# EAGLE library part DRV8234RTER (library DRV8234RTER)
Motor / Motion / Ignition Controllers & Drivers SINGLE H-BRIDGE MOTOR DRIVER Source: Datasheet <https://www.ti.com/lit/ds/symlink/drv8234.pdf?ts=1704472523164&ref_url=https%3A%2F%2Fwww.ti.com%2Fsitesearch%2Fen-us%2Fdocs%2Funiversalsearch.tsp%3FlangPref%3Den-US%26searchTerm%3DDRV8234RTER%26nr%3D2>
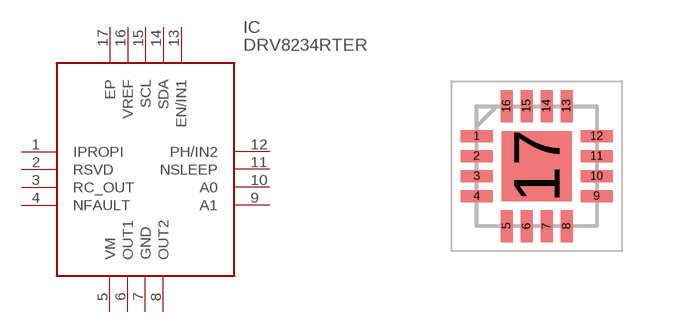
[diagram p0: symbol with the pads of QFN50P300X300X80-17N; footprint QFN50P300X300X80-17N]

Designator prefix IC

## DRV8234RTER (Description: Motor / Motion / Ignition Controllers & Drivers SINGLE H-BRIDGE MOTOR DRIVER; Height: 0.8mm; Manufacturer_Name: Texas Instruments; Manufacturer_Part_Number: DRV8234RTER)  [QFN50P300X300X80-17N]
1  IPROPI
2  RSVD
3  RC_OUT
4  NFAULT
5  VM
6  OUT1
7  GND
8  OUT2
9  A1
10  A0
11  NSLEEP
12  PH/IN2
13  EN/IN1
14  SDA
15  SCL
16  VREF
17  EP

## Footprint QFN50P300X300X80-17N (pad centres in mm)
DRV8234RTERssd
smd 0.8 x 0.3: 1 -1.5,0.75; 2 -1.5,0.25; 3 -1.5,-0.25; 4 -1.5,-0.75; 9 1.5,-0.75; 10 1.5,-0.25; 11 1.5,0.25; 12 1.5,0.75
smd 0.3 x 0.8: 5 -0.75,-1.5; 6 -0.25,-1.5; 7 0.25,-1.5; 8 0.75,-1.5; 13 0.75,1.5; 14 0.25,1.5; 15 -0.25,1.5; 16 -0.75,1.5
smd 1.75 x 1.75: 17 0,0